# EAGLE library part RAZORIMU (library CalPolyUCV)
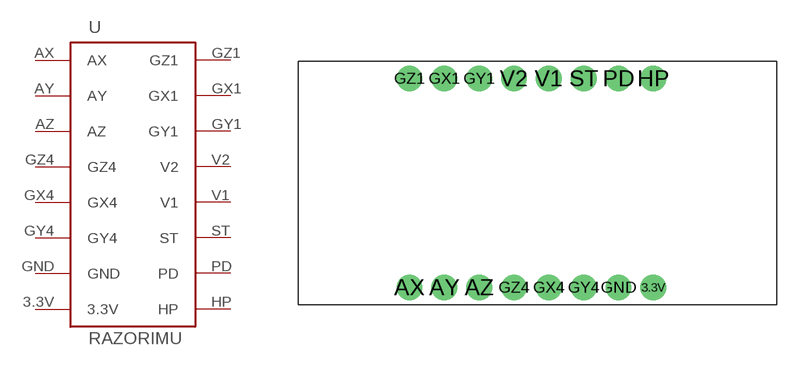
[diagram p3: symbol with the pads of RAZORIMU; footprint RAZORIMU]

Designator prefix -

## RAZORIMU  [RAZORIMU]
3.3V  3.3V
AX  AX
AY  AY
AZ  AZ
GND  GND
GX1  GX1
GX4  GX4
GY1  GY1
GY4  GY4
GZ1  GZ1
GZ4  GZ4
HP  HP
PD  PD
ST  ST
V1  V1
V2  V2

## Footprint RAZORIMU (pad centres in mm)
drill 1.016 pad 1.88 round: 3.3V 8.89,-7.62; AX -8.89,-7.62; AY -6.35,-7.62; AZ -3.81,-7.62; GND 6.35,-7.62; GX1 -6.35,7.62; GX4 1.27,-7.62; GY1 -3.81,7.62; GY4 3.81,-7.62; GZ1 -8.89,7.62; GZ4 -1.27,-7.62; HP 8.89,7.62; PD 6.35,7.62; ST 3.81,7.62; V1 1.27,7.62; V2 -1.27,7.62